# Altium footprint library PCB_ROBOT_HUT_BUI.PcbLib: 27 footprints (part 2 of 2)
Each footprint in its own frame and in the unit in brackets; x right, y up, seen from the top. Pads: shape width x height; smd on the part's side, far side on the other; paste and mask are expansions set on the pad; w line width, h text height; cw(c..) or ccw(c..) is an arc to the next point about the centre after c.
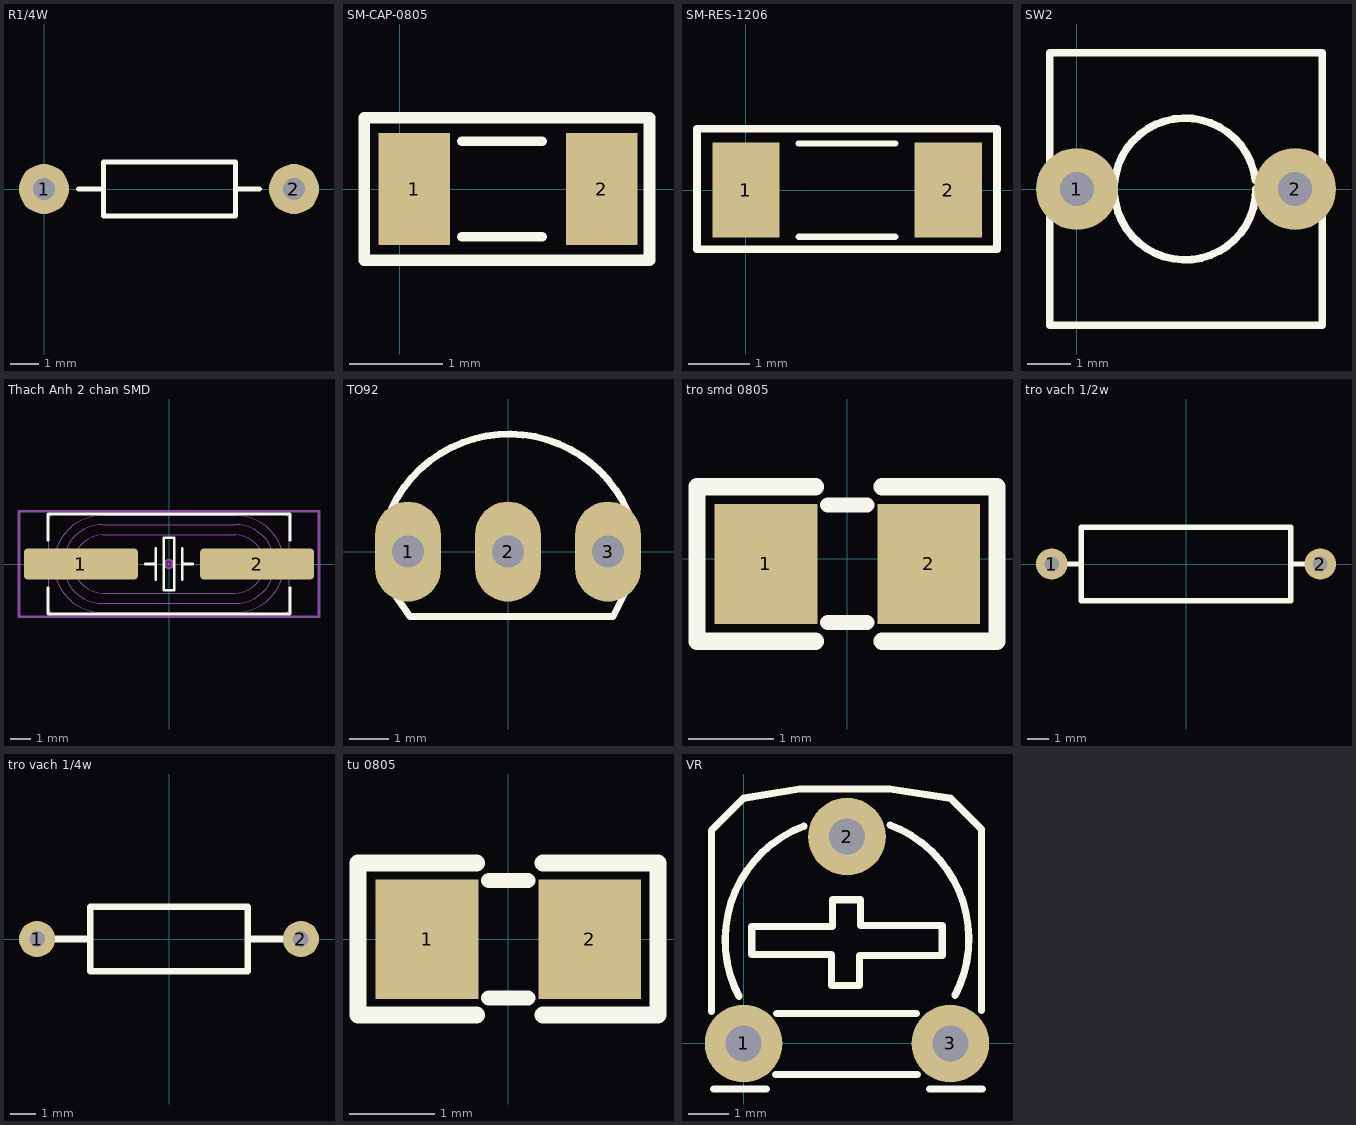
[diagram p1: the footprints below, top view; thin cyan lines are the x and y axes]

## R1/4W [mil]
pads (2):
  round 70 hole 31: 1(0,0) 2(350,0)
Top Overlay:
  lines w7: 48,0 83,0 ; 268,0 302,0 ; 83,-38 83,38 268,38 268,-38 83,-38
3D body "SW3dPS-AXIAL_RESISTOR(0.25W).STEP": height 111.42, standoff -50, extent -39.6,-47 385.6,47.49

## SM-CAP-0805 [mil]
pads (2):
  rect 30x47.24 smd: 1(6,0) 2(85,0)
Top Overlay:
  lines w4: 26,-20 60,-20 ; 26,20 60,20
  lines w5: -15,-30 -15,30 105,30 105,-30 -15,-30
3D body "0805 SMD Capacitor.step": height 31.39, standoff 0.6, extent 5.64,-24.6 84.37,24.61

## SM-RES-1206 [mm]
pads (2):
  rect 1.1x1.55 smd: 1(0,0) 2(3.302,0)
Top Overlay:
  lines w0.102: 0.864,-0.762 2.438,-0.762 ; 0.864,0.762 2.438,0.762
  lines w0.127: -0.8,-0.965 4.1,-0.965 4.1,1 -0.8,1 -0.8,-0.965
3D body "1206 SMD Resistor.step": height 1.02, standoff 0.02, extent 0.051,-0.8 3.251,0.8

## SW2 [mil]
pads (2):
  round 75 hole 31: 1(0,0) 2(200,0)
Top Overlay:
  lines w7: 163.64,8.26 ccw(c99.17,0) 164.17,0 ; -25,-125 -25,125 225,125 225,-125 -25,-125

## Thach Anh 2 chan SMD [mm]
pads (3):
  round 0.508 on Mech15: 0(0,0)
  rrect25% 5.5x1.5 smd: 1(-4.25,0) 2(4.25,0)
Top Overlay:
  lines w0.127: -5.842,-1.143 -5.842,-2.413 5.842,-2.413 5.842,-1.143 ; -5.842,1.143 -5.842,2.413 5.842,2.413 5.842,1.143 ; -1.143,0 -0.635,0 ; -0.635,-0.762 -0.635,0.762 ; 0.635,-0.762 0.635,0.762 ; 0.635,0 1.143,0 ; -0.254,-1.27 0.254,-1.27 0.254,1.27 -0.254,1.27 -0.254,-1.27
Mechanical 13:
  lines w0.05: -5.8,-0.45 -6.4,-0.45 -6.4,0.45 -5.8,0.45 ; 5.8,-0.45 6.4,-0.45 6.4,0.45 5.8,0.45 ; -5.8,-2.165 ccw(c-5.55,-2.165) -5.55,-2.415 5.55,-2.415 ccw(c5.55,-2.165) 5.8,-2.165 5.8,2.165 ccw(c5.55,2.165) 5.55,2.415 -5.55,2.415 ccw(c-5.55,2.165) -5.8,2.165 -5.8,-2.165 ; -3.2,-2.35 cw(c-3.2,0) -3.2,2.35 3.2,2.35 cw(c3.2,0) 3.2,-2.35 -3.2,-2.35 ; -3.2,-1.9 cw(c-3.2,0) -3.2,1.9 3.2,1.9 cw(c3.2,0) 3.2,-1.9 -3.2,-1.9 ; -3.2,-1.4 cw(c-3.2,0) -3.2,1.4 3.2,1.4 cw(c3.2,0) 3.2,-1.4 -3.2,-1.4
Mechanical 15:
  lines w0.127: -7.239,-2.54 7.239,-2.54 7.239,2.54 -7.239,2.54 -7.239,-2.54
3D body "Crystal HC49_US-SM.STEP": height 4.29, standoff -0.01, extent -6.4,-2.415 6.4,2.415

## TO92 [mil]
pads (3):
  oval 66x100 hole 32: 1(-100,0) 2(0,0) 3(100,0)
Top Overlay:
  lines w7: -116.52,43.21 cw(c0.97,-12.43) 119.94,39.97 ; -115.34,-40.24 -98,-65 105,-65 118,-39
3D body "SW3dPS-TO92.STEP": height 245.04, standoff -199.79, extent -108.87,-65.56 108.86,95

## tro smd 0805 [mm]
pads (2):
  rect 1.2x1.4 smd: 1(-0.946,-0.061) 2(0.954,-0.061)
Top Overlay:
  lines w0.178: -0.224,-0.747 0.233,-0.747 ; -0.224,0.625 0.233,0.625
  lines w0.2: -0.367,-0.965 -1.75,-0.965 -1.75,0.838 -0.367,0.838 ; 0.408,-0.965 1.75,-0.965 1.75,0.838 0.408,0.838
3D body "Tro 0805.STEP": height 0.53, standoff 0, extent -1.562,-0.763 1.438,0.637

## tro vach 1/2w [mm]
pads (2):
  round 1.5 hole 0.7: 1(-6.4,0) 2(6.4,0)
Top Overlay:
  lines w0.254: -5.842,0 -5.08,0 ; 5.08,0 5.842,0 ; -5,-1.75 -5,1.75 5,1.75 5,-1.75 -5,-1.75
3D body "Resistro_0.5w.STEP": height 3.5, standoff -3, extent -6.62,-1.75 6.62,1.75

## tro vach 1/4w [mm]
pads (2):
  round 1.4 hole 0.6: 1(-5.1,0) 2(5.1,0)
Top Overlay:
  lines w0.254: -4.394,0 -3.073,0 ; 3.099,0 4.42,0 ; -3.048,-1.25 3.048,-1.25 3.048,1.25 -3.048,1.25 -3.048,-1.25
3D body "Resistor 0.25W-1.step": height 2.41, standoff -2, extent -5.38,-1.2 5.38,1.2

## tu 0805 [mm]
pads (2):
  rect 1.2x1.4 smd: 1(-0.946,-0.003) 2(0.954,-0.003)
Top Overlay:
  lines w0.178: -0.224,-0.689 0.233,-0.689 ; -0.224,0.682 0.233,0.682
  lines w0.2: -0.367,-0.889 -1.753,-0.889 -1.753,0.889 -0.367,0.889 ; 0.408,-0.889 1.753,-0.889 1.753,0.889 0.408,0.889
3D body "SW3dPS-smt_resistor_packages.STEP": height 0.61, standoff -0.01, extent -1.006,-0.638 1.014,0.632

## VR [mil]
pads (3):
  round 75 hole 35: 1(0,0) 2(100,200) 3(200,0)
Top Overlay:
  lines w7: -31,31 -31,206 0,237 54,246 141.5,246 200,237 230,207 230,32 ; -29,-44 22,-44 ; -4.35,45.34 cw(c100,100) 58.1,210.1 ; 8,113 8,86 85,86 85,56 112,56 112,85 192,85 192,114 113,114 113,139 86,139 86,113 9,113 ; 31,-30 168,-30 ; 32,29 167,29 ; 141.9,211.1 cw(c100,101) 204.35,46.34 ; 180,-44 231,-44
3D body "SW3dPS-Trimpot Horizontal.STEP": height 165.35, standoff -220.47, extent -86.85,-30 306.85,371.57